# Altium footprint library nxp.PcbLib: 3 footprints
Each footprint in its own frame and in the unit in brackets; x right, y up, seen from the top. Pads: shape width x height; smd on the part's side, far side on the other; paste and mask are expansions set on the pad; w line width, h text height; cw(c..) or ccw(c..) is an arc to the next point about the centre after c.
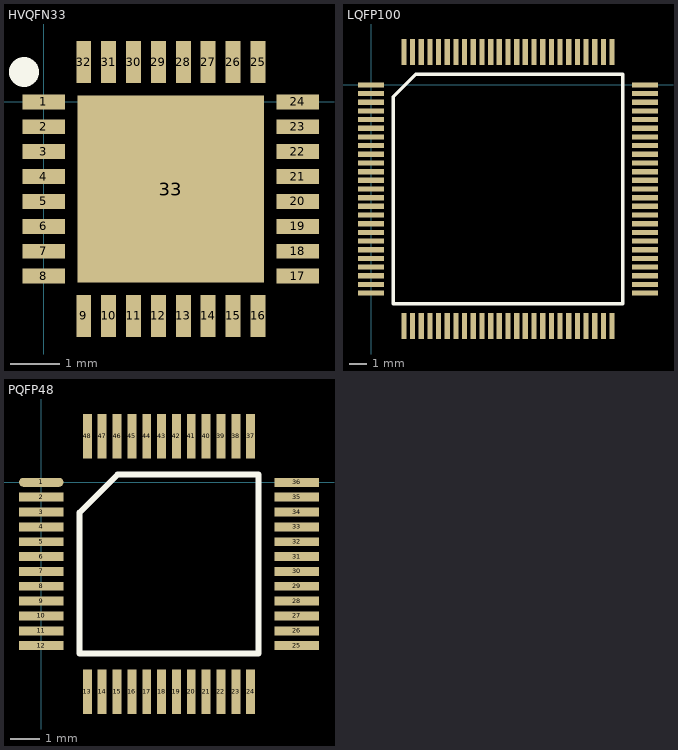
[diagram p0: the footprints below, top view; thin cyan lines are the x and y axes]

## HVQFN33 [mm]
pads (33):
  rect 0.85x0.3 smd: 1(0,0) 2(0,-0.5) 3(0,-1) 4(0,-1.5) 5(0,-2) 6(0,-2.5) 7(0,-3) 8(0,-3.5) 17(5.1,-3.5) 18(5.1,-3) 19(5.1,-2.5) 20(5.1,-2) 21(5.1,-1.5) 22(5.1,-1) 23(5.1,-0.5) 24(5.1,0)
  rect 0.3x0.85 smd: 9(0.8,-4.3) 10(1.3,-4.3) 11(1.8,-4.3) 12(2.3,-4.3) 13(2.8,-4.3) 14(3.3,-4.3) 15(3.8,-4.3) 16(4.3,-4.3) 25(4.3,0.8) 26(3.8,0.8) 27(3.3,0.8) 28(2.8,0.8) 29(2.3,0.8) 30(1.8,0.8) 31(1.3,0.8) 32(0.8,0.8)
  rect 3.75x3.75 smd: 33(2.55,-1.75)
Top Overlay:
  circle w0.4: c-0.4,0.6 r0.1
3D body "User Library-QFN32-1.step": height 0.94, standoff 0.01, extent 0.05,-4.25 5.051,0.75

## LQFP100 [mm]
pads (100):
  rect 1.5x0.3 smd: 1(0,0) 2(0,-0.5) 3(0,-1) 4(0,-1.5) 5(0,-2) 6(0,-2.5) 7(0,-3) 8(0,-3.5) 9(0,-4) 10(0,-4.5) 11(0,-5) 12(0,-5.5) 13(0,-6) 14(0,-6.5) 15(0,-7) 16(0,-7.5) 17(0,-8) 18(0,-8.5) 19(0,-9) 20(0,-9.5) 21(0,-10) 22(0,-10.5) 23(0,-11) 24(0,-11.5) 25(0,-12) 51(15.8,-12) 52(15.8,-11.5) 53(15.8,-11) 54(15.8,-10.5) 55(15.8,-10) 56(15.8,-9.5) 57(15.8,-9) 58(15.8,-8.5) 59(15.8,-8) 60(15.8,-7.5) 61(15.8,-7) 62(15.8,-6.5) 63(15.8,-6) 64(15.8,-5.5) 65(15.8,-5) 66(15.8,-4.5) 67(15.8,-4) 68(15.8,-3.5) 69(15.8,-3) 70(15.8,-2.5) 71(15.8,-2) 72(15.8,-1.5) 73(15.8,-1) 74(15.8,-0.5) 75(15.8,0)
  rect 0.3x1.5 smd: 26(1.9,-13.9) 27(2.4,-13.9) 28(2.9,-13.9) 29(3.4,-13.9) 30(3.9,-13.9) 31(4.4,-13.9) 32(4.9,-13.9) 33(5.4,-13.9) 34(5.9,-13.9) 35(6.4,-13.9) 36(6.9,-13.9) 37(7.4,-13.9) 38(7.9,-13.9) 39(8.4,-13.9) 40(8.9,-13.9) 41(9.4,-13.9) 42(9.9,-13.9) 43(10.4,-13.9) 44(10.9,-13.9) 45(11.4,-13.9) 46(11.9,-13.9) 47(12.4,-13.9) 48(12.9,-13.9) 49(13.4,-13.9) 50(13.9,-13.9) 76(13.9,1.9) 77(13.4,1.9) 78(12.9,1.9) 79(12.4,1.9) 80(11.9,1.9) 81(11.4,1.9) 82(10.9,1.9) 83(10.4,1.9) 84(9.9,1.9) 85(9.4,1.9) 86(8.9,1.9) 87(8.4,1.9) 88(7.9,1.9) 89(7.4,1.9) 90(6.9,1.9) 91(6.4,1.9) 92(5.9,1.9) 93(5.4,1.9) 94(4.9,1.9) 95(4.4,1.9) 96(3.9,1.9) 97(3.4,1.9) 98(2.9,1.9) 99(2.4,1.9) 100(1.9,1.9)
Top Overlay:
  lines w0.2: 1.285,-12.615 1.285,-0.67 2.57,0.615 14.515,0.615 14.515,-12.615 1.285,-12.615
3D body "User Library-LQFP100_Grid_0_5.STEP": height 1.6, standoff 0, extent -0.1,-14 15.9,2

## PQFP48 [mm]
pads (48):
  oval 1.5x0.3 smd: 1(0,0)
  rect 1.5x0.3 smd: 2(0,-0.5) 3(0,-1) 4(0,-1.5) 5(0,-2) 6(0,-2.5) 7(0,-3) 8(0,-3.5) 9(0,-4) 10(0,-4.5) 11(0,-5) 12(0,-5.5) 25(8.6,-5.5) 26(8.6,-5) 27(8.6,-4.5) 28(8.6,-4) 29(8.6,-3.5) 30(8.6,-3) 31(8.6,-2.5) 32(8.6,-2) 33(8.6,-1.5) 34(8.6,-1) 35(8.6,-0.5) 36(8.6,0)
  rect 0.3x1.5 smd: 13(1.55,-7.05) 14(2.05,-7.05) 15(2.55,-7.05) 16(3.05,-7.05) 17(3.55,-7.05) 18(4.05,-7.05) 19(4.55,-7.05) 20(5.05,-7.05) 21(5.55,-7.05) 22(6.05,-7.05) 23(6.55,-7.05) 24(7.05,-7.05) 37(7.05,1.55) 38(6.55,1.55) 39(6.05,1.55) 40(5.55,1.55) 41(5.05,1.55) 42(4.55,1.55) 43(4.05,1.55) 44(3.55,1.55) 45(3.05,1.55) 46(2.55,1.55) 47(2.05,1.55) 48(1.55,1.55)
Top Overlay:
  lines w0.2: 1.285,-5.765 1.285,-1.02 2.57,0.265 7.315,0.265 7.315,-5.765 1.285,-5.765
3D body "User Library-LQFP48-2.STEP": height 1.62, standoff -0.01, extent -0.268,-7.325 8.875,1.818